# EAGLE library part AD7708 (library paparazzi3)
16 bits sigma delta ADC
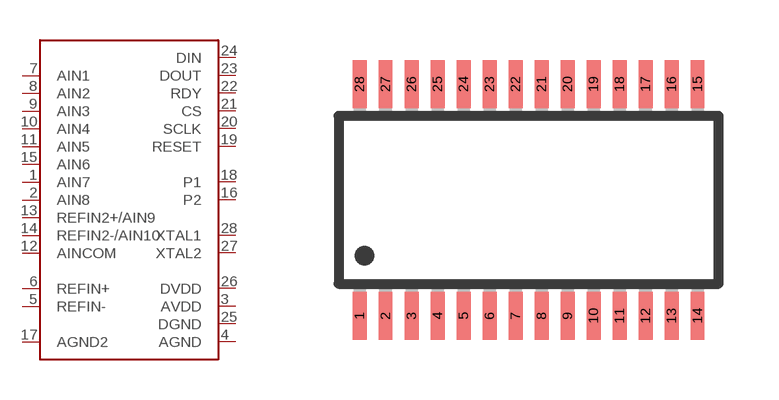
[diagram p21: symbol with the pads of TSSOP28; footprint TSSOP28]

Designator prefix -

## AD7708  [TSSOP28]
1  AIN7
2  AIN8
3  AVDD
4  AGND
5  REFIN-
6  REFIN+
7  AIN1
8  AIN2
9  AIN3
10  AIN4
11  AIN5
12  AINCOM
13  REFIN2+/AIN9
14  REFIN2-/AIN10
15  AIN6
16  P2
17  AGND2
18  P1
19  RESET
20  SCLK
21  CS
22  RDY
23  DOUT
24  DIN
25  DGND
26  DVDD
27  XTAL2
28  XTAL1

## Footprint TSSOP28 (pad centres in mm)
28-Lead TSSOP Package RU-28
smd 0.35 x 1.2: 1 -4.225,-2.9; 2 -3.575,-2.9; 3 -2.925,-2.9; 4 -2.275,-2.9; 5 -1.625,-2.9; 6 -0.975,-2.9; 7 -0.325,-2.9; 8 0.325,-2.9; 9 0.975,-2.9; 10 1.625,-2.9; 11 2.275,-2.9; 12 2.925,-2.9; 13 3.575,-2.9; 14 4.225,-2.9; 15 4.225,2.9; 16 3.575,2.9; 17 2.925,2.9; 18 2.275,2.9; 19 1.625,2.9; 20 0.975,2.9; 21 0.325,2.9; 22 -0.325,2.9; 23 -0.975,2.9; 24 -1.625,2.9; 25 -2.275,2.9; 26 -2.925,2.9; 27 -3.575,2.9; 28 -4.225,2.9